# Altium footprint library KitDemov2.PcbLib: 49 footprints (part 3 of 4)
Each footprint in its own frame and in the unit in brackets; x right, y up, seen from the top. Pads: shape width x height; smd on the part's side, far side on the other; paste and mask are expansions set on the pad; w line width, h text height; cw(c..) or ccw(c..) is an arc to the next point about the centre after c.
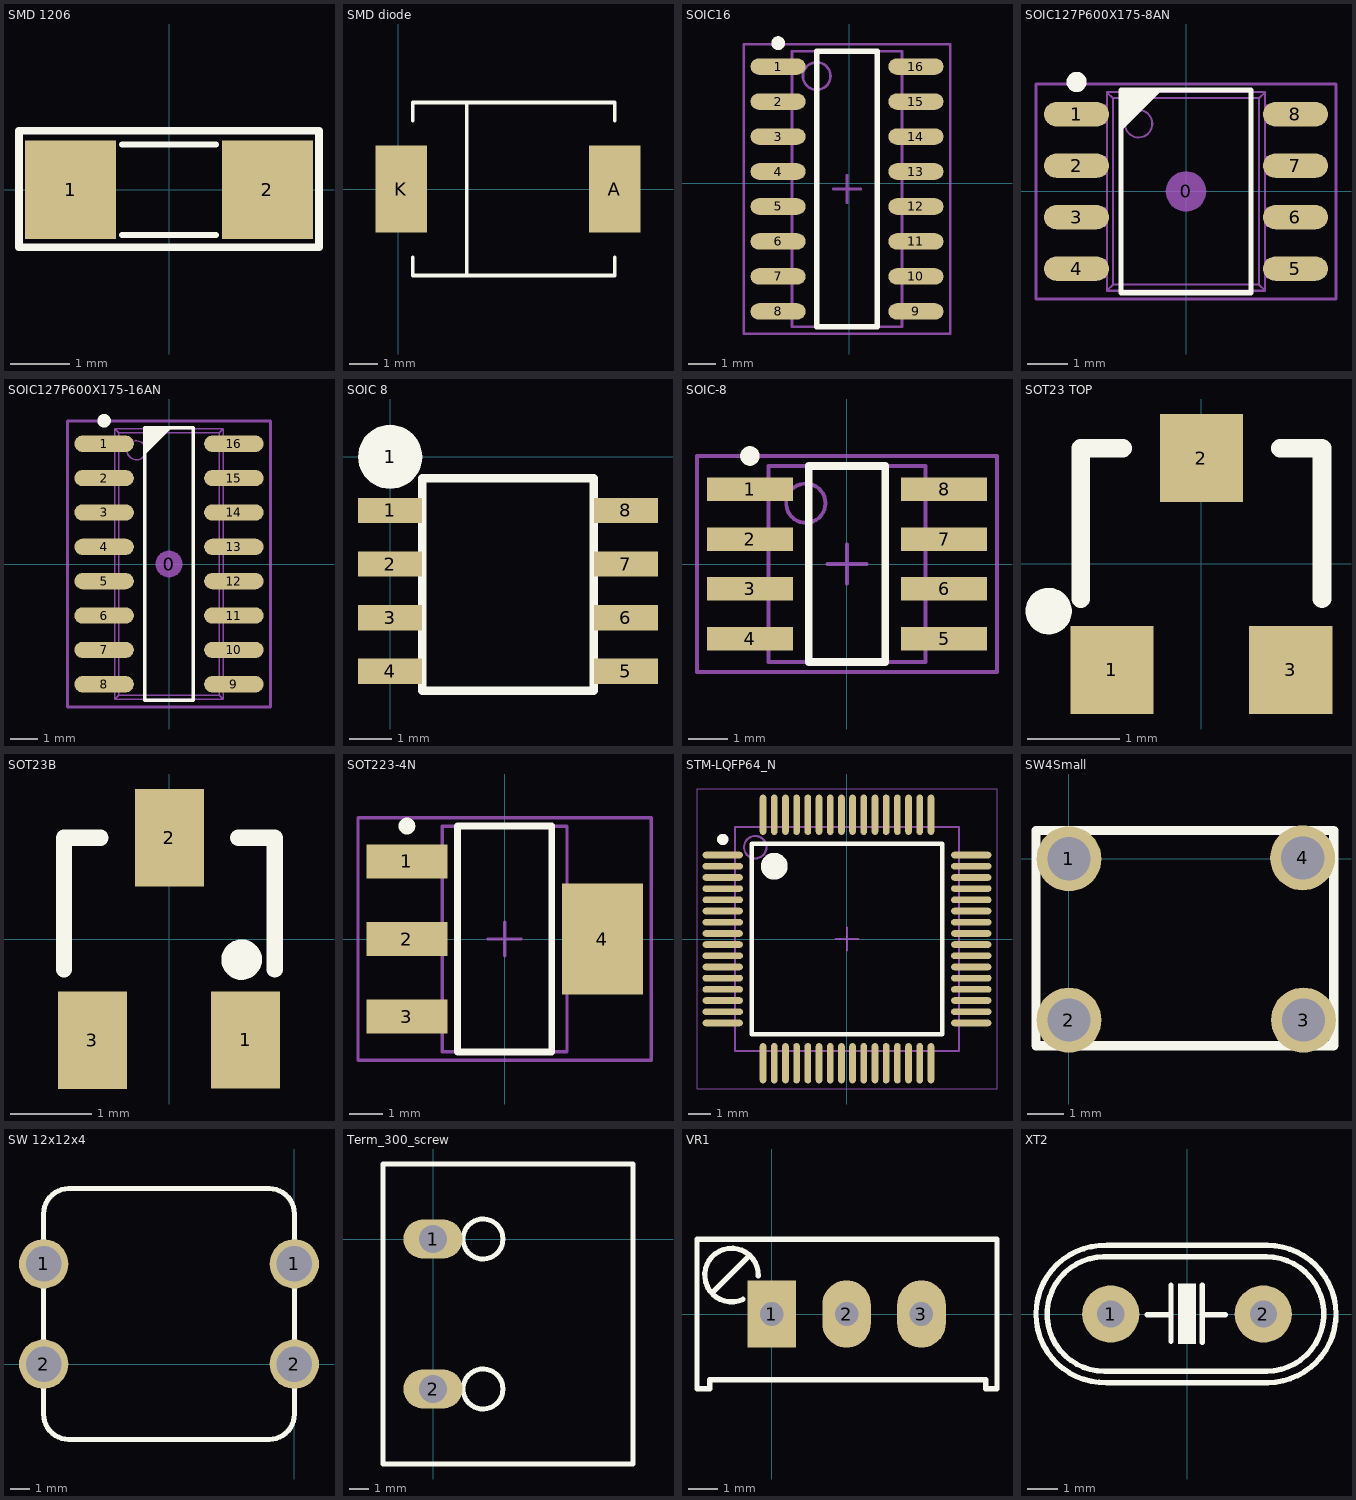
[diagram p2: the footprints below, top view; thin cyan lines are the x and y axes]

## SMD 1206 [mil]
height 50
pads (2):
  rect 60x65 smd: 1(-65,0) 2(65,0)
Top Overlay:
  lines w4: -31,-30 31,-30 ; -31,30 31,30
  lines w5: -99,-38 -99,39 99,39 99,-38 -99,-38
3D body: height 24.79, standoff 0, extent -82.68,-35 82.68,35.87

## SMD diode [mm] "SS54 SS34"
pads (2):
  rect 1.8x3.048 smd: A(7.62,0) K(0.1,0)
Top Overlay:
  lines w0.127: 0.508,-2.413 0.508,-3.048 7.62,-3.048 7.62,-2.413 ; 0.508,2.413 0.508,3.048 7.62,3.048 7.62,2.413 ; 2.413,-3.048 2.413,3.048
Mechanical 1:
  lines w0.025: 0.508,-3.048 7.62,-3.048 ; 0.508,3.048 7.62,3.048
3D body: height 2.4, standoff 0.03, extent -0.076,-3.048 8.054,3.052

## SOIC16 [mm]
height 3
pads (16):
  oval 2x0.6 smd: 1(-2.575,4.24) 2(-2.575,2.97) 3(-2.575,1.7) 4(-2.575,0.43) 5(-2.575,-0.84) 6(-2.575,-2.11) 7(-2.575,-3.38) 8(-2.575,-4.65) 9(2.425,-4.65) 10(2.425,-3.38) 11(2.425,-2.11) 12(2.425,-0.84) 13(2.425,0.43) 14(2.425,1.7) 15(2.425,2.97) 16(2.425,4.24)
Top Overlay:
  circle w0.25: c-2.575,5.09 r0.125
  lines w0.2: -1.175,-5.205 1.025,-5.205 1.025,4.795 -1.175,4.795 -1.175,-5.205
Mechanical 13:
  circle w0.1: c-1.175,3.895 r0.5
  lines w0.1: -2.075,-5.205 1.925,-5.205 1.925,4.795 -2.075,4.795 -2.075,-5.205
Mechanical 15:
  lines w0.1: -0.575,-0.205 0.425,-0.205 ; -0.075,-0.705 -0.075,0.295 ; -3.825,-5.455 3.675,-5.455 3.675,5.045 -3.825,5.045 -3.825,-5.455
3D body: height 1.73, standoff 0, extent -2.075,-5.205 1.925,4.795

## SOIC127P600X175-8AN [mm] "SOIC, 8-Leads, Body 4.9x3.9mm, Pitch 1.27mm, IPC Medium Density"
height 1.75
pads (9):
  round 1 on Mech14: 0(0,0)
  oval 1.6x0.6 smd paste-2: 1(-2.7,1.905) 2(-2.7,0.635) 3(-2.7,-0.635) 4(-2.7,-1.905) 5(2.7,-1.905) 6(2.7,-0.635) 7(2.7,0.635) 8(2.7,1.905)
Top Overlay:
  circle w0.25: c-2.7,2.7 r0.125
  region: -1.6,2.5 -0.6,2.5 -1.6,1.5
  lines w0.127: -1.6,-2.5 -1.6,2.5 1.6,2.5 1.6,-2.5 -1.6,-2.5
Top Paste:
  rectangle: 2.12,-2.145 3.28,-1.665
  rectangle: 2.12,-0.875 3.28,-0.395
  rectangle: 2.12,0.395 3.28,0.875
  rectangle: 2.12,1.665 3.28,2.145
  rectangle: -3.28,-2.145 -2.12,-1.665
  rectangle: -3.28,-0.875 -2.12,-0.395
  rectangle: -3.28,0.395 -2.12,0.875
  rectangle: -3.28,1.665 -2.12,2.145
Mechanical 13:
  circle w0.05: c-1.17,1.67 r0.338
  lines w0.05: -2.631,-2.115 -2.631,-1.695 ; -2.631,-0.845 -2.631,-0.425 ; -2.631,0.425 -2.631,0.845 ; -2.631,1.695 -2.631,2.115 ; -2.543,-2.115 -2.543,-1.695 ; -2.543,-0.845 -2.543,-0.425 ; -2.543,0.425 -2.543,0.845 ; -2.543,1.695 -2.543,2.115 ; -2.403,-2.115 -2.403,-1.695 ; -2.403,-0.845 -2.403,-0.425 ; -2.403,0.425 -2.403,0.845 ; -2.403,1.695 -2.403,2.115 ; -2.113,-2.115 -2.113,-1.695 ; -2.113,-0.845 -2.113,-0.425 ; -2.113,0.425 -2.113,0.845 ; -2.113,1.695 -2.113,2.115 ; -1.95,-2.115 -3,-2.115 -3,-1.695 -1.95,-1.695 ; -1.95,-0.845 -3,-0.845 -3,-0.425 -1.95,-0.425 ; -1.95,0.425 -3,0.425 -3,0.845 -1.95,0.845 ; -1.95,1.695 -3,1.695 -3,2.115 -1.95,2.115 ; 1.95,-2.115 3,-2.115 3,-1.695 1.95,-1.695 ; 1.95,-0.845 3,-0.845 3,-0.425 1.95,-0.425 ; 1.95,0.425 3,0.425 3,0.845 1.95,0.845 ; 1.95,1.695 3,1.695 3,2.115 1.95,2.115 ; 2.113,-2.115 2.113,-1.695 ; 2.113,-0.845 2.113,-0.425 ; 2.113,0.425 2.113,0.845 ; 2.113,1.695 2.113,2.115 ; 2.403,-2.115 2.403,-1.695 ; 2.403,-0.845 2.403,-0.425 ; 2.403,0.425 2.403,0.845 ; 2.403,1.695 2.403,2.115 ; 2.543,-2.115 2.543,-1.695 ; 2.543,-0.845 2.543,-0.425 ; 2.543,0.425 2.543,0.845 ; 2.543,1.695 2.543,2.115 ; 2.631,-2.115 2.631,-1.695 ; 2.631,-0.845 2.631,-0.425 ; 2.631,0.425 2.631,0.845 ; 2.631,1.695 2.631,2.115 ; -1.95,-2.45 1.95,-2.45 ; -1.95,-2.45 -1.95,2.45 ; -1.95,-2.45 -1.801,-2.301 ; -1.95,2.45 -1.801,2.301 ; -1.95,2.45 1.95,2.45 ; -1.801,-2.301 1.801,-2.301 ; -1.801,-2.301 -1.801,2.301 ; -1.801,2.301 1.801,2.301 ; 1.801,-2.301 1.95,-2.45 ; 1.801,-2.301 1.801,2.301 ; 1.801,2.301 1.95,2.45 ; 1.95,-2.45 1.95,2.45
Mechanical 14:
  lines w0.076: -3.7,-2.65 -3.7,2.65 3.7,2.65 3.7,-2.65 -3.7,-2.65
3D body: height 1.75, standoff 0, extent -3,-2.45 3,2.45

## SOIC127P600X175-16AN [mm] "SOIC, 1.27mm pitch, 16 pin, Body 9.9x3.90mm"
height 1.75
pads (17):
  round 1 on Mech14: 0(0,0)
  oval 2.2x0.6 smd: 1(-2.4,4.445) 2(-2.4,3.175) 3(-2.4,1.905) 4(-2.4,0.635) 5(-2.4,-0.635) 6(-2.4,-1.905) 7(-2.4,-3.175) 8(-2.4,-4.445) 9(2.4,-4.445) 10(2.4,-3.175) 11(2.4,-1.905) 12(2.4,-0.635) 13(2.4,0.635) 14(2.4,1.905) 15(2.4,3.175) 16(2.4,4.445)
Top Overlay:
  circle w0.25: c-2.4,5.295 r0.125
  region: -0.9,5.035 0.1,5.035 -0.9,4.035
  lines w0.127: -0.9,-5.035 -0.9,5.035 0.9,5.035 0.9,-5.035 -0.9,-5.035
Mechanical 13:
  circle w0.05: c-1.2,4.2 r0.35
  lines w0.05: -2.631,-4.655 -2.631,-4.235 ; -2.631,-3.385 -2.631,-2.965 ; -2.631,-2.115 -2.631,-1.695 ; -2.631,-0.845 -2.631,-0.425 ; -2.631,0.425 -2.631,0.845 ; -2.631,1.695 -2.631,2.115 ; -2.631,2.965 -2.631,3.385 ; -2.631,4.235 -2.631,4.655 ; -2.543,-4.655 -2.543,-4.235 ; -2.543,-3.385 -2.543,-2.965 ; -2.543,-2.115 -2.543,-1.695 ; -2.543,-0.845 -2.543,-0.425 ; -2.543,0.425 -2.543,0.845 ; -2.543,1.695 -2.543,2.115 ; -2.543,2.965 -2.543,3.385 ; -2.543,4.235 -2.543,4.655 ; -2.403,-4.655 -2.403,-4.235 ; -2.403,-3.385 -2.403,-2.965 ; -2.403,-2.115 -2.403,-1.695 ; -2.403,-0.845 -2.403,-0.425 ; -2.403,0.425 -2.403,0.845 ; -2.403,1.695 -2.403,2.115 ; -2.403,2.965 -2.403,3.385 ; -2.403,4.235 -2.403,4.655 ; -2.113,-4.655 -2.113,-4.235 ; -2.113,-3.385 -2.113,-2.965 ; -2.113,-2.115 -2.113,-1.695 ; -2.113,-0.845 -2.113,-0.425 ; -2.113,0.425 -2.113,0.845 ; -2.113,1.695 -2.113,2.115 ; -2.113,2.965 -2.113,3.385 ; -2.113,4.235 -2.113,4.655 ; -2,-4.655 -3,-4.655 -3,-4.235 -2,-4.235 ; -2,-3.385 -3,-3.385 -3,-2.965 -2,-2.965 ; -2,-2.115 -3,-2.115 -3,-1.695 -2,-1.695 ; -2,-0.845 -3,-0.845 -3,-0.425 -2,-0.425 ; -2,0.425 -3,0.425 -3,0.845 -2,0.845 ; -2,1.695 -3,1.695 -3,2.115 -2,2.115 ; -2,2.965 -3,2.965 -3,3.385 -2,3.385 ; -2,4.235 -3,4.235 -3,4.655 -2,4.655 ; 2,-4.655 3,-4.655 3,-4.235 2,-4.235 ; 2,-3.385 3,-3.385 3,-2.965 2,-2.965 ; 2,-2.115 3,-2.115 3,-1.695 2,-1.695 ; 2,-0.845 3,-0.845 3,-0.425 2,-0.425 ; 2,0.425 3,0.425 3,0.845 2,0.845 ; 2,1.695 3,1.695 3,2.115 2,2.115 ; 2,2.965 3,2.965 3,3.385 2,3.385 ; 2,4.235 3,4.235 3,4.655 2,4.655 ; 2.113,-4.655 2.113,-4.235 ; 2.113,-3.385 2.113,-2.965 ; 2.113,-2.115 2.113,-1.695 ; 2.113,-0.845 2.113,-0.425 ; 2.113,0.425 2.113,0.845 ; 2.113,1.695 2.113,2.115 ; 2.113,2.965 2.113,3.385 ; 2.113,4.235 2.113,4.655 ; 2.403,-4.655 2.403,-4.235 ; 2.403,-3.385 2.403,-2.965 ; 2.403,-2.115 2.403,-1.695 ; 2.403,-0.845 2.403,-0.425 ; 2.403,0.425 2.403,0.845 ; 2.403,1.695 2.403,2.115 ; 2.403,2.965 2.403,3.385 ; 2.403,4.235 2.403,4.655 ; 2.543,-4.655 2.543,-4.235 ; 2.543,-3.385 2.543,-2.965 ; 2.543,-2.115 2.543,-1.695 ; 2.543,-0.845 2.543,-0.425 ; 2.543,0.425 2.543,0.845 ; 2.543,1.695 2.543,2.115 ; 2.543,2.965 2.543,3.385 ; 2.543,4.235 2.543,4.655 ; 2.631,-4.655 2.631,-4.235 ; 2.631,-3.385 2.631,-2.965 ; 2.631,-2.115 2.631,-1.695 ; 2.631,-0.845 2.631,-0.425 ; 2.631,0.425 2.631,0.845 ; 2.631,1.695 2.631,2.115 ; 2.631,2.965 2.631,3.385 ; 2.631,4.235 2.631,4.655 ; -2,-5 -2,5 ; -2,-5 -1.851,-4.851 ; -2,-5 2,-5 ; -2,5 -1.851,4.851 ; -2,5 2,5 ; -1.851,-4.851 1.851,-4.851 ; -1.851,-4.851 -1.851,4.851 ; -1.851,4.851 1.851,4.851 ; 1.851,-4.851 2,-5 ; 1.851,-4.851 1.851,4.851 ; 1.851,4.851 2,5 ; 2,-5 2,5
Mechanical 14:
  lines w0.1: -3.75,-5.285 -3.75,5.285 3.75,5.285 3.75,-5.285 -3.75,-5.285
3D body: height 1.75, standoff 0, extent -3,-5 3,5

## SOIC 8 [mm]
pads (9):
  rect 1.52x0.6 smd: 1(0,-1.27) 2(0,-2.54) 3(0,-3.81) 4(0,-5.08) 5(5.588,-5.08) 6(5.588,-3.81) 7(5.588,-2.54) 8(5.588,-1.27)
  round 1.524 on Top Overlay: 1(0,0)
Top Overlay:
  lines w0.2: 0.762,-5.548 4.826,-5.548 4.826,-0.508 0.762,-0.508 0.762,-5.548
3D body: height 1.75, standoff 0, extent -0.306,-5.67 5.706,-0.67

## SOIC-8 [mm] "SOIC, 8-Leads, Body 5,0x4,0mm (max), Pitch 1,27mm, IPC Medium Density"
height 1.75
pads (8):
  rect 2.2x0.6 smd: 1(-2.475,1.905) 2(-2.475,0.635) 3(-2.475,-0.635) 4(-2.475,-1.905) 5(2.475,-1.905) 6(2.475,-0.635) 7(2.475,0.635) 8(2.475,1.905)
Top Overlay:
  circle w0.25: c-2.475,2.755 r0.125
  lines w0.2: -0.975,-2.5 -0.975,2.5 0.975,2.5 0.975,-2.5 -0.975,-2.5
Mechanical 13:
  circle w0.1: c-1.05,1.55 r0.5
  lines w0.1: -2,-2.5 -2,2.5 2,2.5 2,-2.5 -2,-2.5
Mechanical 15:
  lines w0.1: -0.5,0 0.5,0 ; 0,-0.5 0,0.5 ; -3.825,-2.75 -3.825,2.75 3.825,2.75 3.825,-2.75 -3.825,-2.75
3D body: height 0.25, standoff 0, extent 2.515,-2.159 3.2,-1.651
3D body: height 0.9, standoff 0.65, extent 2,-2.159 2.515,-1.651
3D body: height 0.9, standoff 0, extent 2.413,-2.159 2.565,-1.651
3D body: height 0.9, standoff 0, extent 2.413,-0.889 2.565,-0.381
3D body: height 0.9, standoff 0.65, extent 2,-0.889 2.515,-0.381
3D body: height 0.25, standoff 0, extent 2.515,-0.889 3.2,-0.381
3D body: height 0.25, standoff 0, extent 2.515,1.651 3.2,2.159
3D body: height 0.9, standoff 0.65, extent 2,1.651 2.515,2.159
3D body: height 0.9, standoff 0, extent 2.413,1.651 2.565,2.159
3D body: height 0.9, standoff 0, extent 2.413,0.381 2.565,0.889
3D body: height 0.9, standoff 0.65, extent 2,0.381 2.515,0.889
3D body: height 0.25, standoff 0, extent 2.515,0.381 3.2,0.889
3D body: height 0.25, standoff 0, extent -3.2,-0.889 -2.515,-0.381
3D body: height 0.9, standoff 0.65, extent -2.515,-0.889 -2,-0.381
3D body: height 0.9, standoff 0, extent -2.565,-0.889 -2.413,-0.381
3D body: height 0.9, standoff 0, extent -2.565,-2.159 -2.413,-1.651
3D body: height 0.9, standoff 0.65, extent -2.515,-2.159 -2,-1.651
3D body: height 0.25, standoff 0, extent -3.2,-2.159 -2.515,-1.651
3D body: height 0.25, standoff 0, extent -3.2,0.381 -2.515,0.889
3D body: height 0.9, standoff 0.65, extent -2.515,0.381 -2,0.889
3D body: height 0.9, standoff 0, extent -2.565,0.381 -2.413,0.889
3D body: height 0.9, standoff 0, extent -2.565,1.651 -2.413,2.159
3D body: height 0.9, standoff 0.65, extent -2.515,1.651 -2,2.159
3D body: height 0.25, standoff 0, extent -3.2,1.651 -2.515,2.159
3D body: height 1.75, standoff 0.25, extent -2,-2.5 2,2.5

## SOT23 TOP [mm]
pads (3):
  rect 0.9x0.95 smd: 1(-0.965,-1.143) 2(0,1.143) 3(0.965,-1.143)
Top Overlay:
  circle w0.25: c-1.649,-0.508 r0.125
  lines w0.2: -1.3,-0.375 -1.3,1.25 -0.85,1.25 ; 0.85,1.25 1.3,1.25 1.3,-0.375
3D body: height 1, standoff 0, extent -1.46,-1.17 1.46,1.17

## SOT23B [mm] "SOT 23B"
height 1.27
pads (3):
  rect 0.85x1.2 smd: 1(0.94,-1.245) 2(0,1.25) 3(-0.95,-1.25)
Top Overlay:
  circle w0.25: c0.891,-0.254 r0.125
  lines w0.2: -1.3,-0.375 -1.3,1.25 -0.85,1.25 ; 0.85,1.25 1.3,1.25 1.3,-0.375
3D body: height 1.27, standoff 0, extent -0.892,-0.518 -0.643,-0.269
3D body: height 1.27, standoff 0, extent -1.511,-0.698 1.511,0.699
3D body: height 0.9, standoff 0.75, extent -0.246,0.55 0.211,0.83
3D body: height 0.9, standoff 0, extent -0.246,0.83 0.211,0.957
3D body: height 0.15, standoff 0, extent -0.246,0.957 0.211,1.49
3D body: height 0.9, standoff 0.75, extent -1.171,-0.849 -0.714,-0.57
3D body: height 0.9, standoff 0, extent -1.171,-0.976 -0.714,-0.849
3D body: height 0.15, standoff 0, extent -1.171,-1.51 -0.714,-0.976
3D body: height 0.9, standoff 0.75, extent 0.754,-0.855 1.212,-0.575
3D body: height 0.9, standoff 0, extent 0.754,-0.982 1.212,-0.855
3D body: height 0.15, standoff 0, extent 0.754,-1.515 1.212,-0.982

## SOT223-4N [mm] "SOT223, 4-Leads, Body 6.5x3.5mm, Pitch 2.3mm, Lead Span 7mm, IPC Medium Density"
height 1.8
pads (4):
  rect 2.4x1 smd: 1(-2.9,2.3) 2(-2.9,0) 3(-2.9,-2.3)
  rect 2.4x3.3 smd: 4(2.9,0)
Top Overlay:
  circle w0.25: c-2.9,3.35 r0.125
  lines w0.2: -1.4,-3.35 -1.4,3.35 1.4,3.35 1.4,-3.35 -1.4,-3.35
Mechanical 13:
  lines w0.1: -1.85,-3.35 -1.85,3.35 1.85,3.35 1.85,-3.35 -1.85,-3.35
Mechanical 15:
  lines w0.1: -0.5,0 0.5,0 ; 0,-0.5 0,0.5 ; -4.35,-3.6 -4.35,3.6 4.35,3.6 4.35,-3.6 -4.35,-3.6
3D body: height 1.8, standoff 0, extent -1.85,-3.35 1.85,3.35

## STM-LQFP64_N [mm] "Thin QFP, 64-Leads, Body 10x10mm, Pitch 0.5mm, IPC Medium Density"
height 1.6
pads (64):
  oval 1.8x0.3 smd: 1(-5.55,3.75) 2(-5.55,3.25) 3(-5.55,2.75) 4(-5.55,2.25) 5(-5.55,1.75) 6(-5.55,1.25) 7(-5.55,0.75) 8(-5.55,0.25) 9(-5.55,-0.25) 10(-5.55,-0.75) 11(-5.55,-1.25) 12(-5.55,-1.75) 13(-5.55,-2.25) 14(-5.55,-2.75) 15(-5.55,-3.25) 16(-5.55,-3.75) 33(5.55,-3.75) 34(5.55,-3.25) 35(5.55,-2.75) 36(5.55,-2.25) 37(5.55,-1.75) 38(5.55,-1.25) 39(5.55,-0.75) 40(5.55,-0.25) 41(5.55,0.25) 42(5.55,0.75) 43(5.55,1.25) 44(5.55,1.75) 45(5.55,2.25) 46(5.55,2.75) 47(5.55,3.25) 48(5.55,3.75)
  oval 0.3x1.8 smd: 17(-3.75,-5.55) 18(-3.25,-5.55) 19(-2.75,-5.55) 20(-2.25,-5.55) 21(-1.75,-5.55) 22(-1.25,-5.55) 23(-0.75,-5.55) 24(-0.25,-5.55) 25(0.25,-5.55) 26(0.75,-5.55) 27(1.25,-5.55) 28(1.75,-5.55) 29(2.25,-5.55) 30(2.75,-5.55) 31(3.25,-5.55) 32(3.75,-5.55) 49(3.75,5.55) 50(3.25,5.55) 51(2.75,5.55) 52(2.25,5.55) 53(1.75,5.55) 54(1.25,5.55) 55(0.75,5.55) 56(0.25,5.55) 57(-0.25,5.55) 58(-0.75,5.55) 59(-1.25,5.55) 60(-1.75,5.55) 61(-2.25,5.55) 62(-2.75,5.55) 63(-3.25,5.55) 64(-3.75,5.55)
Top Overlay:
  circle w0.6: c-3.25,3.25 r0.3
  circle w0.25: c-5.55,4.45 r0.125
  lines w0.2: -4.25,-4.25 4.25,-4.25 4.25,4.25 -4.25,4.25 -4.25,-4.25
Mechanical 13:
  circle w0.1: c-4.1,4.1 r0.5
  lines w0.1: -5,-5 5,-5 5,5 -5,5 -5,-5
Mechanical 15:
  lines w0.05: -6.7,-6.7 6.7,-6.7 6.7,6.7 -6.7,6.7 -6.7,-6.7
  lines w0.1: -0.5,0 0.5,0 ; 0,-0.5 0,0.5
3D body: height 1.6, standoff 0.05, extent -5,-5 5,5

## SW4Small [mm]
pads (4):
  round 1.8 hole 1.2: 1(0,0) 2(0,-4.47) 3(6.502,-4.47) 4(6.477,0.025)
Top Overlay:
  lines w0.254: -0.914,-5.182 -0.914,0.787 6.934,0.787 7.341,0.787 7.341,-5.182 -0.914,-5.182
3D body: height 9.52, standoff -3.48, extent -0.864,-5.235 7.348,0.765

## SW 12x12x4 [mm] "Nut bam 12x12x4mm"
pads (4):
  round 2.5 hole 1.8: 1(-12.7,5.08) 1(0,5.08) 2(-12.7,0) 2(0,0)
Top Overlay:
  lines w0.254: -12.7,-1.27 -12.7,-2.54 ccw(c-11.43,-2.54) -11.43,-3.81 -1.27,-3.81 ccw(c-1.27,-2.54) 0,-2.54 0,-1.27 ; -12.7,1.27 -12.7,3.81 ; -12.7,6.35 -12.7,7.62 cw(c-11.43,7.62) -11.43,8.89 -1.27,8.89 cw(c-1.27,7.62) 0,7.62 0,6.35 ; 0,1.27 0,3.81

## Term_300_screw [mm]
height 7.62
pads (2):
  oval 3x2 hole 1.4: 1(0,0) 2(0,-7.62)
Top Overlay:
  circle w0.254: c2.54,-7.62 r1.016
  circle w0.254: c2.54,0 r1.016
  lines w0.254: -2.54,-11.43 -2.54,3.81 10.16,3.81 10.16,-11.43 -2.54,-11.43

## VR1 [mil] "Variable Resistor"
height 400
pads (3):
  rect 65x90 hole 31.5: 1(0,0)
  oval 65x90 hole 31.5: 2(100,0) 3(200,0)
Top Overlay:
  lines w7: -80,28 -30,78 ; -38.6,19.63 cw(c-53.79,52.05) -18.01,50.77 ; -100,-100 -100,100 301,100 301,-100 286,-100 286,-88 -83,-88 -83,-100 -100,-100
3D body: height 455, standoff -45, extent -87.5,-130 287.5,110

## XT2 [mm] "Footpin for Crystal 2 pin"
pads (2):
  round 1.905 hole 0.9: 1(-2.54,0) 2(2.54,0)
Top Overlay:
  region: 0.292,1.016 0.292,-0.991 -0.292,-0.991 -0.292,1.016
  lines w0.178: -2.769,1.905 ccw(c-2.756,0) -2.75,-1.905 ; -2.717,-1.905 2.617,-1.905 ; -2.692,1.905 2.642,1.905 ; -2.668,-2.286 2.69,-2.286 ccw(c2.675,0) 2.668,2.286 -2.666,2.286 ccw(c-2.743,0.001) -2.668,-2.283 ; -1.321,-0.025 -0.533,-0.025 ; -0.533,-0.914 -0.533,0.965 ; 0.508,-0.94 0.508,0.965 ; 0.508,-0.025 1.27,-0.025 ; 2.642,1.905 cw(c2.647,0) 2.66,-1.905
3D body: height 3.5, standoff -4, extent -5.929,-2.364 5.421,2.286